# Altium schematic symbol library photodiode_pcb.SchLib: 2 symbols
Pins are listed as number, name and electrical type; pins without a type are passive.

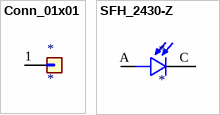
[diagram p0: symbols Conn_01x01 to SFH_2430-Z]

## Conn_01x01
designator *
pins: 1 Pin_1

## SFH_2430-Z
designator *
pins: A, C